# Altium schematic symbol library AP2112K-3.3TRG1.SchLib: 1 symbol
Pins are listed as number, name and electrical type; pins without a type are passive.

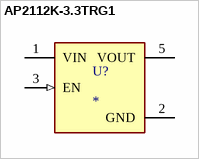
[diagram p0: symbol AP2112K-3.3TRG1]

## AP2112K-3.3TRG1
designator U?
Linear Voltage Regulator IC Positive Fixed 1 Output 600mA SOT-25 / JLCPCB C51118; MF: Diodes Inc.; MP: AP2112K-3.3TRG1; Value: *; Purchase-URL: https://pricing.snapeda.com/search/part/AP2112K-3.3TRG1/?ref=eda; Package: SOT-753 Diodes Inc.; Availability: In Stock; Check_prices: https://www.snapeda.com/parts/AP2112K-3.3TRG1/Diodes+Inc./view-part/?ref=eda; Price: None; SnapEDA_Link: https://www.snapeda.com/parts/AP2112K-3.3TRG1/Diodes+Inc./view-part/?ref=snap
footprint SOT95P285X140-5N
pins: 1 VIN (power), 2 GND (power), 3 EN (in), 5 VOUT (power)